# Altium footprint library Molex Serial Bus Mini USB.PcbLib: 2 footprints
Each footprint in its own frame and in the unit in brackets; x right, y up, seen from the top. Pads: shape width x height; smd on the part's side, far side on the other; paste and mask are expansions set on the pad; w line width, h text height; cw(c..) or ccw(c..) is an arc to the next point about the centre after c.
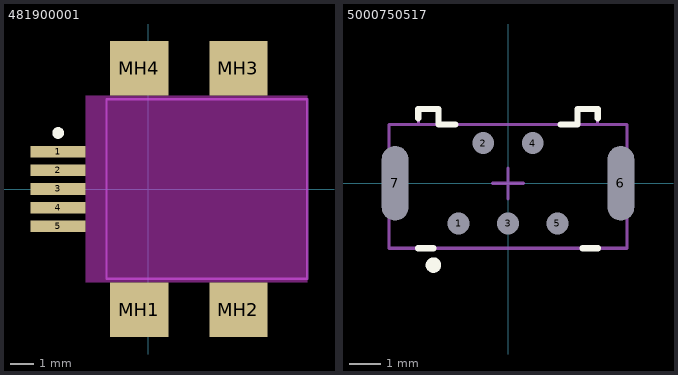
[diagram p0: the footprints below, top view; thin cyan lines are the x and y axes]

## 481900001 [mm] "Connector; USB Mini-B, Sinking Type, SM; 5 Position; Right Angle"
height 0.35
pads (9):
  rect 2.35x0.5 smd: 1(-3.862,1.6) 2(-3.862,0.8) 3(-3.862,0) 4(-3.862,-0.8) 5(-3.862,-1.6)
  rect 2.5x2.35 smd: MH1(-0.387,-5.175) MH2(3.863,-5.175) MH3(3.863,5.175) MH4(-0.387,5.175)
Top Overlay:
  circle w0.25: c-3.862,2.4 r0.125
Keep-Out Layer:
  rectangle: -2.687,-4 6.813,4
Mechanical 13:
  lines w0.1: -1.788,-3.85 -1.788,3.85 6.813,3.85 6.813,-3.85 -1.788,-3.85
3D body: height 0.35, standoff -3.25, extent -1.798,-3.838 6.801,3.861

## 5000750517 [mm] "Connector; USB Mini-B, Type 2, Thru-Hole; 5 Position; Vertical"
height 7.7
pads (7):
  round 0.4 / inner round 0.4 / far side oval 1.1x1.7 hole 0.7: 1(-1.6,-1.3) 2(-0.8,1.3) 3(0,-1.3) 4(0.8,1.3) 5(1.6,-1.3)
  oval 0.55x2.1 / inner oval 0.55x2.1 / far side oval 1.6x3.9 hole 0.85 slot 2.4 at 90 deg: 6(3.65,0) 7(-3.65,0)
Top Overlay:
  circle w0.25: c-2.41,-2.645 r0.125
  lines w0.2: -2.91,-2.1 -2.41,-2.1 ; -2.9,2.1 -2.9,2.4 -2.25,2.4 -2.25,1.9 -1.7,1.9 ; 1.7,1.9 2.25,1.9 2.25,2.4 2.9,2.4 2.9,2.1 ; 2.41,-2.1 2.91,-2.1
Mechanical 13:
  lines w0.1: -2.9,1.9 -2.9,2.4 -2.25,2.4 -2.25,1.9 ; 2.25,1.9 2.25,2.4 2.9,2.4 2.9,1.9 ; -3.85,-2.1 -3.85,1.9 3.85,1.9 3.85,-2.1 -3.85,-2.1
Mechanical 15:
  lines w0.1: -0.5,0 0.5,0 ; 0,-0.5 0,0.5
3D body: height 7.7, standoff 0, extent -2.899,1.901 -2.251,2.399
3D body: height 7.7, standoff 0, extent 2.251,1.901 2.899,2.399
3D body: height 7.7, standoff 0, extent -3.849,-2.099 3.849,1.899